# EAGLE library part IV-26 (library Passives)
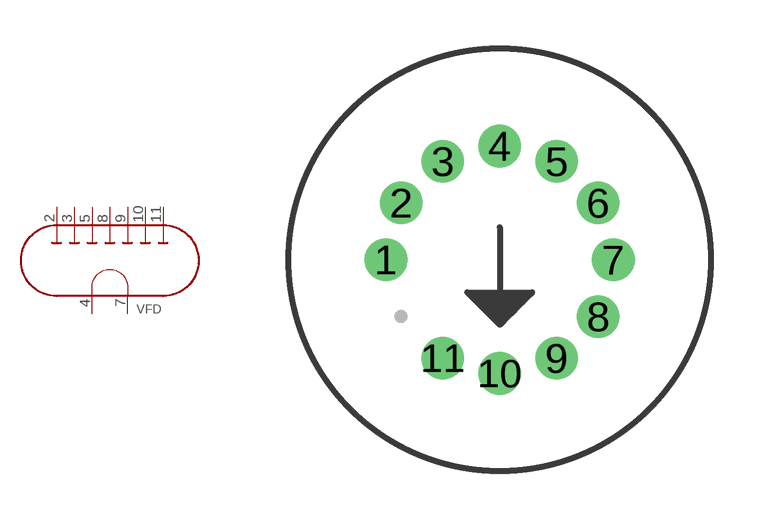
[diagram p8: symbol with the pads of IV-26; footprint IV-26]

Designator prefix VFD

## IV-26  [IV-26]
2  2
3  3
4  4
5  5
7  7
8  8
9  9
10  10
11  11

## Footprint IV-26 (pad centres in mm)
drill 0.8: 1 -3.5,0; 2 -3.031,1.75; 3 -1.75,3.031; 4 0,3.5; 5 1.75,3.031; 6 3.031,1.75; 7 3.5,0; 8 3.031,-1.75; 9 1.75,-3.031; 10 0,-3.5; 11 -1.75,-3.031